# EAGLE library part MOD-V2 (library cdp)
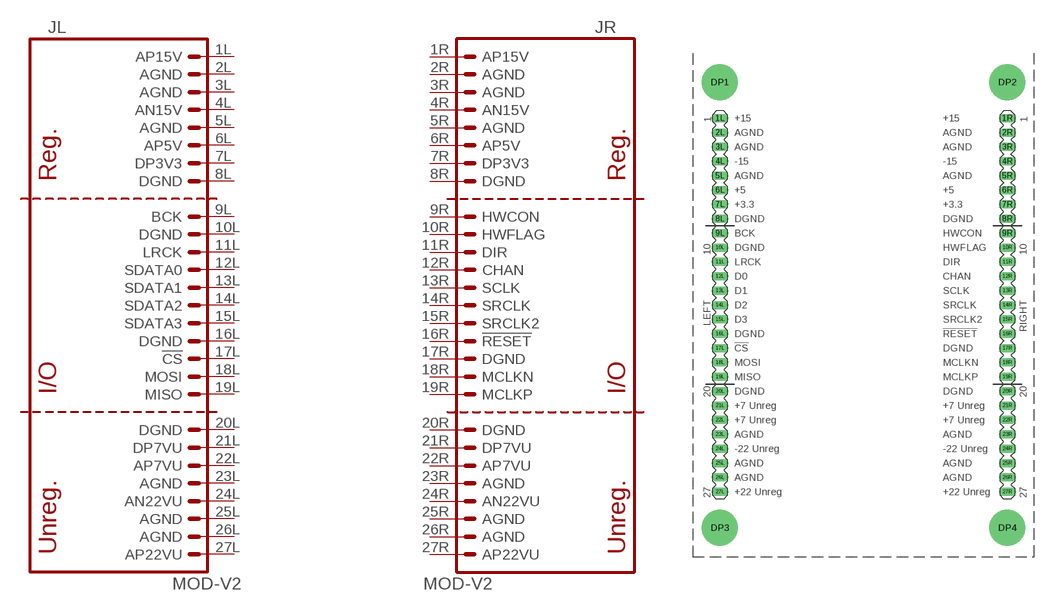
[diagram p23: symbol with the pads of MOD-V2; footprint MOD-V2]

Designator prefix J; gates L=MOD-V2-L R=MOD-V2-R

## MOD-V2  [MOD-V2]
1L  L:AP15V  pas
1R  R:AP15V  pas
2L  L:AGND  pas
2R  R:AGND  pas
3L  L:AGND  pas
3R  R:AGND  pas
4L  L:AN15V  pas
4R  R:AN15V  pas
5L  L:AGND  pas
5R  R:AGND  pas
6L  L:AP5V  pas
6R  R:AP5V  pas
7L  L:DP3V3  pas
7R  R:DP3V3  pas
8L  L:DGND  pas
8R  R:DGND  pas
9L  L:BCK  pas
9R  R:HWCON  pas
10L  L:DGND  pas
10R  R:HWFLAG  pas
11L  L:LRCK  pas
11R  R:DIR  pas
12L  L:SDATA0  pas
12R  R:CHAN  pas
13L  L:SDATA1  pas
13R  R:SCLK  pas
14L  L:SDATA2  pas
14R  R:SRCLK  pas
15L  L:SDATA3  pas
15R  R:SRCLK2  pas
16L  L:DGND  pas
16R  R:!RESET  pas
17L  L:!CS  pas
17R  R:DGND  pas
18L  L:MOSI  pas
18R  R:MCLKN  pas
19L  L:MISO  pas
19R  R:MCLKP  pas
20L  L:DGND  pas
20R  R:DGND  pas
21L  L:DP7VU  pas
21R  R:DP7VU  pas
22L  L:AP7VU  pas
22R  R:AP7VU  pas
23L  L:AGND  pas
23R  R:AGND  pas
24L  L:AN22VU  pas
24R  R:AN22VU  pas
25L  L:AGND  pas
25R  R:AGND  pas
26L  L:AGND  pas
26R  R:AGND  pas
27L  L:AP22VU  pas
27R  R:AP22VU  pas

## Footprint MOD-V2 (pad centres in mm)
drill 1.016 long: 1L -25.4,33.02; 1R 25.4,33.02; 2L -25.4,30.48; 2R 25.4,30.48; 3L -25.4,27.94; 3R 25.4,27.94; 4L -25.4,25.4; 4R 25.4,25.4; 5L -25.4,22.86; 5R 25.4,22.86; 6L -25.4,20.32; 6R 25.4,20.32; 7L -25.4,17.78; 7R 25.4,17.78; 8L -25.4,15.24; 8R 25.4,15.24; 9L -25.4,12.7; 9R 25.4,12.7; 10L -25.4,10.16; 10R 25.4,10.16; 11L -25.4,7.62; 11R 25.4,7.62; 12L -25.4,5.08; 12R 25.4,5.08; 13L -25.4,2.54; 13R 25.4,2.54; 14L -25.4,0; 14R 25.4,0; 15L -25.4,-2.54; 15R 25.4,-2.54; 16L -25.4,-5.08; 16R 25.4,-5.08; 17L -25.4,-7.62; 17R 25.4,-7.62; 18L -25.4,-10.16; 18R 25.4,-10.16; 19L -25.4,-12.7; 19R 25.4,-12.7; 20L -25.4,-15.24; 20R 25.4,-15.24; 21L -25.4,-17.78; 21R 25.4,-17.78; 22L -25.4,-20.32; 22R 25.4,-20.32; 23L -25.4,-22.86; 23R 25.4,-22.86; 24L -25.4,-25.4; 24R 25.4,-25.4; 25L -25.4,-27.94; 25R 25.4,-27.94; 26L -25.4,-30.48; 26R 25.4,-30.48; 27L -25.4,-33.02; 27R 25.4,-33.02
drill 3.175 pad 6.35 round: DP1 -25.4,39.37; DP2 25.4,39.37; DP3 -25.4,-39.37; DP4 25.4,-39.37